# EAGLE library part CY14B104M (library MM24I)
Cypress CY14B104M 4-Mbit (256 K × 16) nvSRAM with Real Time Clock https://www.cypress.com/file/43036/download
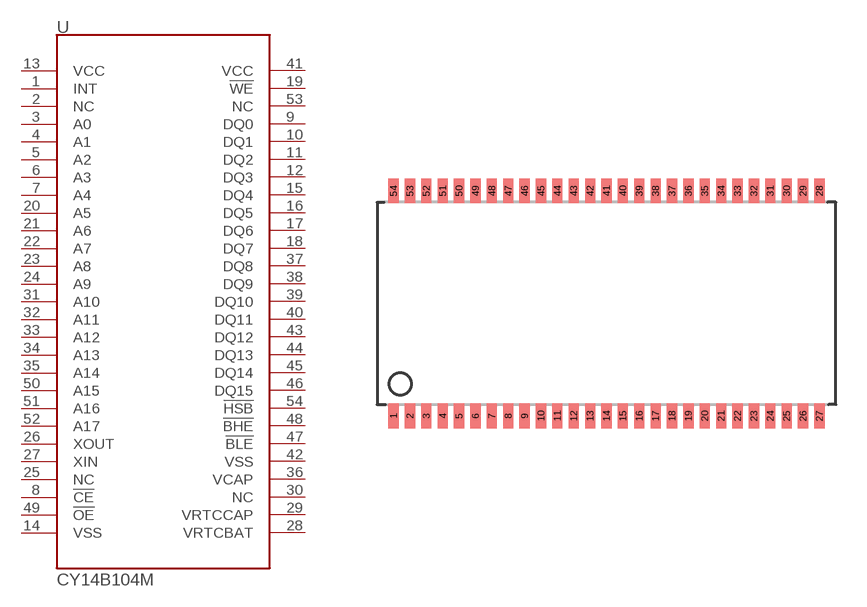
[diagram p0: symbol with the pads of TSOPII-54; footprint TSOPII-54]

Designator prefix U

## CY14B104M  [TSOPII-54]
1  INT  out
2  NC  nc
3  A0  in
4  A1  in
5  A2  in
6  A3  in
7  A4  in
8  !CE
9  DQ0
10  DQ1
11  DQ2
12  DQ3
13  VCC  pwr
14  VSS  pwr
15  DQ4
16  DQ5
17  DQ6
18  DQ7
19  !WE  in
20  A5  in
21  A6  in
22  A7  in
23  A8  in
24  A9  in
25  NC  nc
26  XOUT  pas
27  XIN  pas
28  VRTCBAT  pas
29  VRTCCAP  pas
30  NC  nc
31  A10  in
32  A11  in
33  A12  in
34  A13  in
35  A14  in
36  VCAP  out
37  DQ8
38  DQ9
39  DQ10
40  DQ11
41  VCC  pwr
42  VSS  pwr
43  DQ12
44  DQ13
45  DQ14
46  DQ15
47  !BLE  in
48  !BHE  in
49  !OE  in
50  A15  in
51  A16  in
52  A17  in
53  NC  nc
54  !HSB

## Footprint TSOPII-54 (pad centres in mm)
54-pin TSOP II (51-85160) Source: CYPRESS cy7c1069av33_8.pdf
smd 0.5 x 1.2: 1 -10.4,-5.502; 2 -9.6,-5.502; 3 -8.8,-5.502; 4 -8,-5.502; 5 -7.2,-5.502; 6 -6.4,-5.502; 7 -5.6,-5.502; 8 -4.8,-5.502; 9 -4,-5.502; 10 -3.2,-5.502; 11 -2.4,-5.502; 12 -1.6,-5.502; 13 -0.8,-5.502; 14 0,-5.502; 15 0.8,-5.502; 16 1.6,-5.502; 17 2.4,-5.502; 18 3.2,-5.502; 19 4,-5.502; 20 4.8,-5.502; 21 5.6,-5.502; 22 6.4,-5.502; 23 7.2,-5.502; 24 8,-5.502; 25 8.8,-5.502; 26 9.6,-5.502; 27 10.4,-5.502; 28 10.4,5.502; 29 9.6,5.502; 30 8.8,5.502; 31 8,5.502; 32 7.2,5.502; 33 6.4,5.502; 34 5.6,5.502; 35 4.8,5.502; 36 4,5.502; 37 3.2,5.502; 38 2.4,5.502; 39 1.6,5.502; 40 0.8,5.502; 41 0,5.502; 42 -0.8,5.502; 43 -1.6,5.502; 44 -2.4,5.502; 45 -3.2,5.502; 46 -4,5.502; 47 -4.8,5.502; 48 -5.6,5.502; 49 -6.4,5.502; 50 -7.2,5.502; 51 -8,5.502; 52 -8.8,5.502; 53 -9.6,5.502; 54 -10.4,5.502